# Altium schematic symbol library 2.8    -晟矽微MCU.SchLib: 19 symbols
Pins are listed as number, name and electrical type; pins without a type are passive.

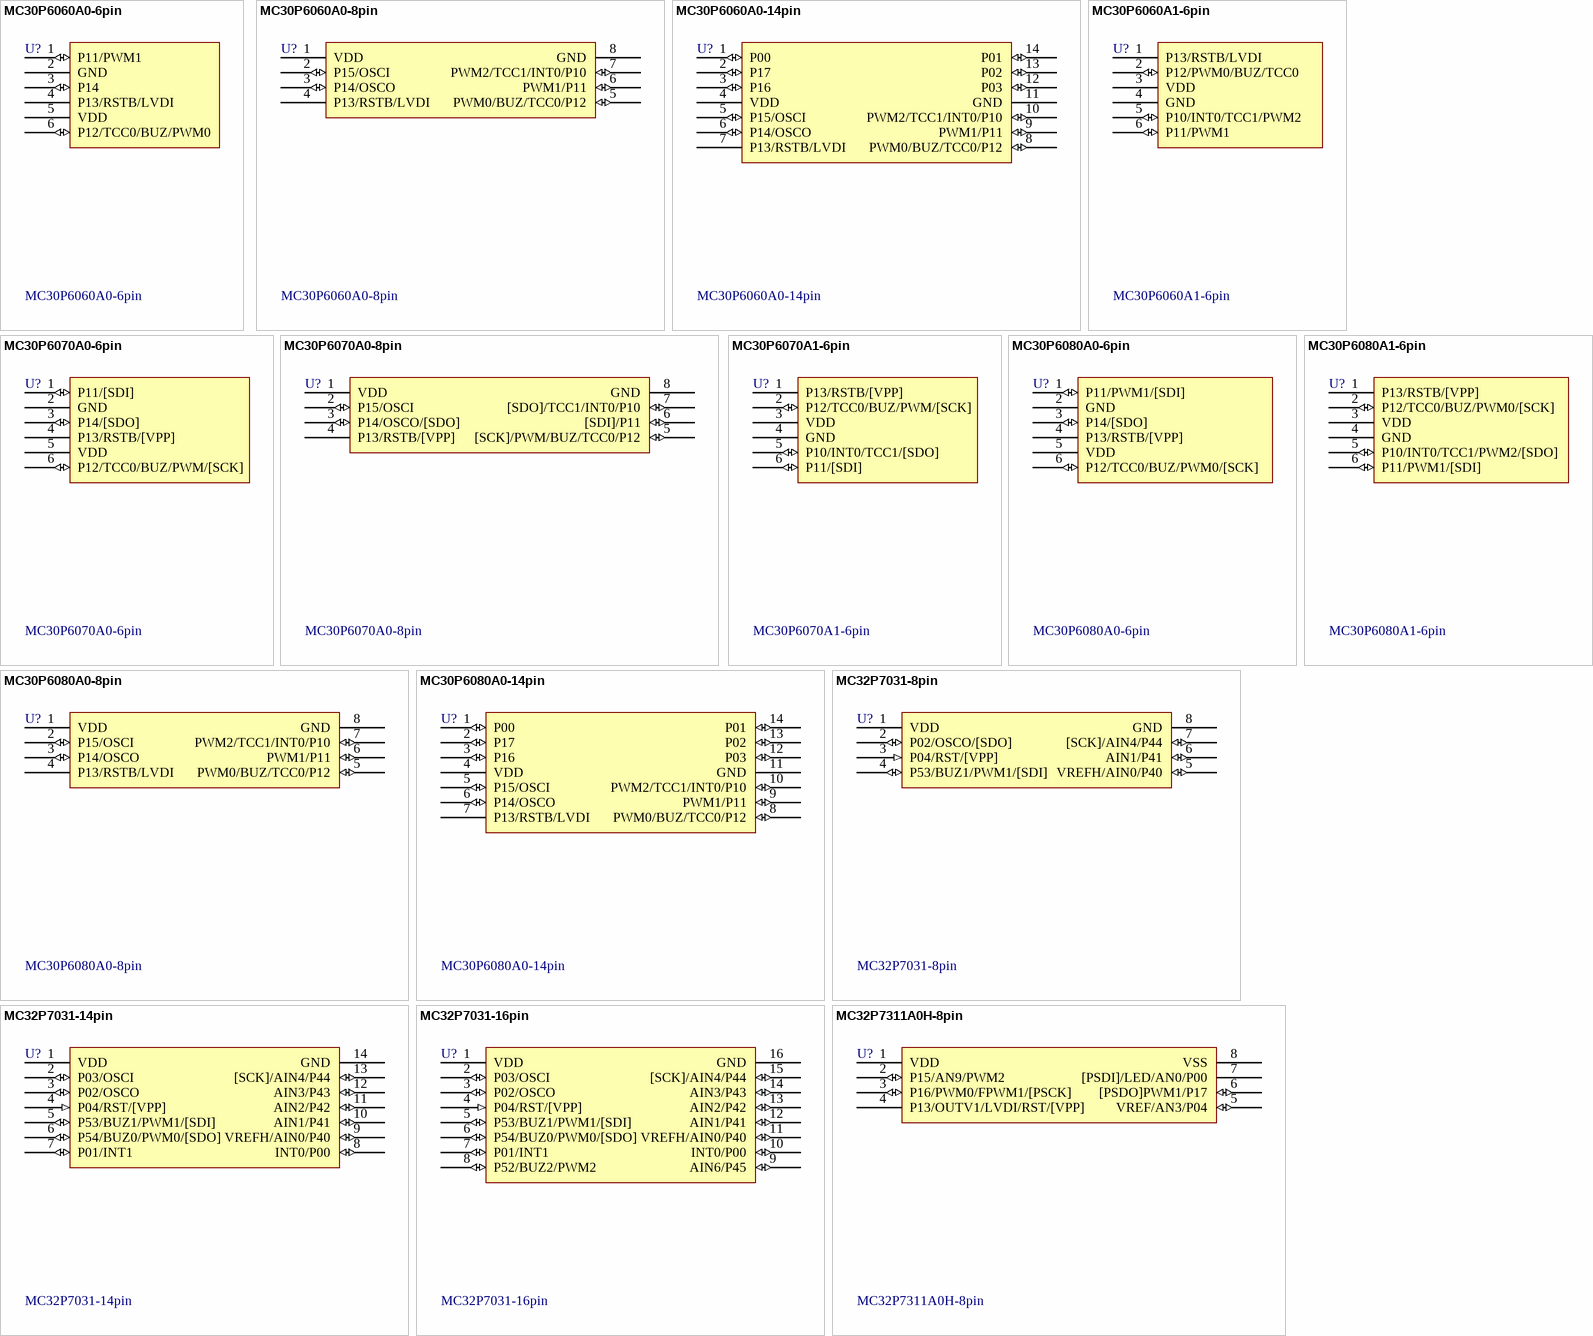
[diagram p0: symbols MC30P6060A0-6pin to MC32P7311A0H-8pin]

## MC30P6060A0-6pin
designator U?
OTP: 1K,     RAM: 48B,  IO: 4; BOM名称: 晟矽微MCU; 描述: OTP: 1K,     RAM: 48B,  IO: 4
footprint SOT23-6N (3x1.6x1.1mm(长宽高))
footprint SOT23-6L (3x1.6x1.1mm(长宽高))
footprint SOT23-6M (3x1.6x1.1mm(长宽高))
pins: 1 P11/PWM1 (io), 2 GND (power), 3 P14 (io), 4 P13/RSTB/LVDI (oc), 5 VDD (power), 6 P12/TCC0/BUZ/PWM0 (io)

## MC30P6060A0-8pin
designator U?
OTP: 1K,     RAM: 48B,  IO: 6; BOM名称: 晟矽微MCU; 描述: OTP: 1K,     RAM: 48B,  IO: 6
footprint SOP8_N (5*6*1.8mm（长宽高）)
footprint SOP8_L (5*6*1.8mm（长宽高）)
footprint SOP8_M (5*6*1.8mm（长宽高）)
footprint TSSOP8_L (3*4.2*1mm（长宽高）)
footprint TSSOP8_N (规格：3*6.4*1.1mm（长宽高）)
footprint TSSOP8_M (3*4.2*1mm（长宽高）)
pins: 1 VDD (power), 2 P15/OSCI (io), 3 P14/OSCO (io), 4 P13/RSTB/LVDI (oc), 5 PWM0/BUZ/TCC0/P12 (io), 6 PWM1/P11 (io), 7 PWM2/TCC1/INT0/P10 (io), 8 GND (power)

## MC30P6060A0-14pin
designator U?
OTP: 1K,     RAM: 48B,  IO: 12; BOM名称: 晟矽微MCU; 描述: OTP: 1K,     RAM: 48B,  IO: 12
footprint SOP14_N (8.7*6.2*1.8mm（长宽高）)
footprint SOP14_L (8.7*6.2*1.8mm（长宽高）)
footprint SOP14_M (8.7*6.2*1.8mm（长宽高）)
pins: 1 P00 (io), 2 P17 (io), 3 P16 (io), 4 VDD (power), 5 P15/OSCI (io), 6 P14/OSCO (io), 7 P13/RSTB/LVDI (oc), 8 PWM0/BUZ/TCC0/P12 (io), 9 PWM1/P11 (io), 10 PWM2/TCC1/INT0/P10 (io), 11 GND (power), 12 P03 (io), 13 P02 (io), 14 P01 (io)

## MC30P6060A1-6pin
designator U?
OTP: 1K,     RAM: 48B,  IO: 4; BOM名称: 晟矽微MCU; 描述: OTP: 1K,     RAM: 48B,  IO: 4
footprint SOT23-6L (3x1.6x1.1mm(长宽高))
footprint SOT23-6N (3x1.6x1.1mm(长宽高))
footprint SOT23-6M (3x1.6x1.1mm(长宽高))
pins: 1 P13/RSTB/LVDI (oc), 2 P12/PWM0/BUZ/TCC0 (io), 3 VDD (power), 4 GND (power), 5 P10/INT0/TCC1/PWM2 (io), 6 P11/PWM1 (io)

## MC30P6070A0-6pin
designator U?
OTP: 1K,     RAM: 48B,  IO: 4; BOM名称: 晟矽微MCU; 描述: OTP: 1K,     RAM: 48B,  IO: 4
footprint SOT23-6N (3x1.6x1.1mm(长宽高))
footprint SOT23-6L (3x1.6x1.1mm(长宽高))
footprint SOT23-6M (3x1.6x1.1mm(长宽高))
pins: 1 P11/[SDI] (io), 2 GND (power), 3 P14/[SDO] (io), 4 P13/RSTB/[VPP] (oc), 5 VDD (power), 6 P12/TCC0/BUZ/PWM/[SCK] (io)

## MC30P6070A0-8pin
designator U?
OTP: 1K,     RAM: 48B,  IO: 6; BOM名称: 晟矽微MCU; 描述: OTP: 1K,     RAM: 48B,  IO: 6
footprint SOP8_N (5*6*1.8mm（长宽高）)
footprint SOP8_L (5*6*1.8mm（长宽高）)
footprint SOP8_M (5*6*1.8mm（长宽高）)
footprint TSSOP8_L (3*4.2*1mm（长宽高）)
footprint TSSOP8_N (规格：3*6.4*1.1mm（长宽高）)
footprint TSSOP8_M (3*4.2*1mm（长宽高）)
pins: 1 VDD (power), 2 P15/OSCI (io), 3 P14/OSCO/[SDO] (io), 4 P13/RSTB/[VPP] (oc), 5 [SCK]/PWM/BUZ/TCC0/P12 (io), 6 [SDI]/P11 (io), 7 [SDO]/TCC1/INT0/P10 (io), 8 GND (power)

## MC30P6070A1-6pin
designator U?
OTP: 1K,     RAM: 48B,  IO: 4; BOM名称: 晟矽微MCU; 描述: OTP: 1K,     RAM: 48B,  IO: 4
footprint SOT23-6L (3x1.6x1.1mm(长宽高))
footprint SOT23-6N (3x1.6x1.1mm(长宽高))
footprint SOT23-6M (3x1.6x1.1mm(长宽高))
pins: 1 P13/RSTB/[VPP] (oc), 2 P12/TCC0/BUZ/PWM/[SCK] (io), 3 VDD (power), 4 GND (power), 5 P10/INT0/TCC1/[SDO] (io), 6 P11/[SDI] (io)

## MC30P6080A0-6pin
designator U?
OTP: 1K,     RAM: 48B,  IO: 4; BOM名称: 晟矽微MCU; 描述: OTP: 1K,     RAM: 48B,  IO: 4
footprint SOT23-6N (3x1.6x1.1mm(长宽高))
footprint SOT23-6L (3x1.6x1.1mm(长宽高))
footprint SOT23-6M (3x1.6x1.1mm(长宽高))
pins: 1 P11/PWM1/[SDI] (io), 2 GND (power), 3 P14/[SDO] (io), 4 P13/RSTB/[VPP] (oc), 5 VDD (power), 6 P12/TCC0/BUZ/PWM0/[SCK] (io)

## MC30P6080A0-8pin
designator U?
OTP: 1K,     RAM: 48B,  IO: 6; BOM名称: 晟矽微MCU; 描述: OTP: 1K,     RAM: 48B,  IO: 6
footprint SOP8_N (5*6*1.8mm（长宽高）)
footprint SOP8_L (5*6*1.8mm（长宽高）)
footprint SOP8_M (5*6*1.8mm（长宽高）)
footprint TSSOP8_L (3*4.2*1mm（长宽高）)
footprint TSSOP8_N (规格：3*6.4*1.1mm（长宽高）)
footprint TSSOP8_M (3*4.2*1mm（长宽高）)
pins: 1 VDD (power), 2 P15/OSCI (io), 3 P14/OSCO (io), 4 P13/RSTB/LVDI (oc), 5 PWM0/BUZ/TCC0/P12 (io), 6 PWM1/P11 (io), 7 PWM2/TCC1/INT0/P10 (io), 8 GND (power)

## MC30P6080A0-14pin
designator U?
OTP: 1K,     RAM: 48B,  IO: 12; BOM名称: 晟矽微MCU; 描述: OTP: 1K,     RAM: 48B,  IO: 12
footprint SOP14_N (8.7*6.2*1.8mm（长宽高）)
footprint SOP14_L (8.7*6.2*1.8mm（长宽高）)
footprint SOP14_M (8.7*6.2*1.8mm（长宽高）)
pins: 1 P00 (io), 2 P17 (io), 3 P16 (io), 4 VDD (power), 5 P15/OSCI (io), 6 P14/OSCO (io), 7 P13/RSTB/LVDI (oc), 8 PWM0/BUZ/TCC0/P12 (io), 9 PWM1/P11 (io), 10 PWM2/TCC1/INT0/P10 (io), 11 GND (power), 12 P03 (io), 13 P02 (io), 14 P01 (io)

## MC30P6080A1-6pin
designator U?
OTP: 1K,     RAM: 48B,  IO: 4; BOM名称: 晟矽微MCU; 描述: OTP: 1K,     RAM: 48B,  IO: 4
footprint SOT23-6L (3x1.6x1.1mm(长宽高))
footprint SOT23-6N (3x1.6x1.1mm(长宽高))
footprint SOT23-6M (3x1.6x1.1mm(长宽高))
pins: 1 P13/RSTB/[VPP] (oc), 2 P12/TCC0/BUZ/PWM0/[SCK] (io), 3 VDD (power), 4 GND (power), 5 P10/INT0/TCC1/PWM2/[SDO] (io), 6 P11/PWM1/[SDI] (io)

## MC32P7031-8pin
designator U?
OTP: 2K,     RAM: 128B,  IO: 14; BOM名称: 晟矽微MCU; 描述: OTP: 2K,     RAM: 128B,  IO: 14
footprint SOP8_N (5*6*1.8mm（长宽高）)
footprint SOP8_L (4*5*1.8mm（长宽高）)
footprint SOP8_M (5*6*1.8mm（长宽高）)
pins: 1 VDD (power), 2 P02/OSCO/[SDO] (io), 3 P04/RST/[VPP] (in), 4 P53/BUZ1/PWM1/[SDI] (io), 5 VREFH/AIN0/P40 (io), 6 AIN1/P41 (io), 7 [SCK]/AIN4/P44 (io), 8 GND (power)

## MC32P7031-14pin
designator U?
OTP: 2K,     RAM: 128B,  IO: 12; BOM名称: 晟矽微MCU; 描述: OTP: 2K,     RAM: 128B,  IO: 14
footprint SOP14_N (8.7*6.2*1.8mm（长宽高）)
footprint SOP14_L (8.7*6.2*1.8mm（长宽高）)
footprint SOP14_M (8.7*6.2*1.8mm（长宽高）)
pins: 1 VDD (power), 2 P03/OSCI (io), 3 P02/OSCO (io), 4 P04/RST/[VPP] (in), 5 P53/BUZ1/PWM1/[SDI] (io), 6 P54/BUZ0/PWM0/[SDO] (io), 7 P01/INT1 (io), 8 INT0/P00 (io), 9 VREFH/AIN0/P40 (io), 10 AIN1/P41 (io), 11 AIN2/P42 (io), 12 AIN3/P43 (io), 13 [SCK]/AIN4/P44 (io), 14 GND (power)

## MC32P7031-16pin
designator U?
OTP: 2K,     RAM: 128B,  IO: 14; BOM名称: 晟矽微MCU; 描述: OTP: 2K,     RAM: 128B,  IO: 14
footprint SOP16_N (10.3*6.2*1.8mm（长宽高）)
footprint SOP16_L (10.3*6.2*1.8mm（长宽高）)
footprint SOP16_M (10.3*6.2*1.8mm（长宽高）)
pins: 1 VDD (power), 2 P03/OSCI (io), 3 P02/OSCO (io), 4 P04/RST/[VPP] (in), 5 P53/BUZ1/PWM1/[SDI] (io), 6 P54/BUZ0/PWM0/[SDO] (io), 7 P01/INT1 (io), 8 P52/BUZ2/PWM2 (io), 9 AIN6/P45 (io), 10 INT0/P00 (io), 11 VREFH/AIN0/P40 (io), 12 AIN1/P41 (io), 13 AIN2/P42 (io), 14 AIN3/P43 (io), 15 [SCK]/AIN4/P44 (io), 16 GND (power)

## MC32P7311A0H-8pin
designator U?
OTP: 2K,     RAM: 256B,  IO: 6; BOM名称: 晟矽微MCU; 描述: OTP: 1K,     RAM: 48B,  IO: 6
footprint SOP8_N (5*6*1.8mm（长宽高）)
footprint SOP8_L (5*6*1.8mm（长宽高）)
footprint SOP8_M (5*6*1.8mm（长宽高）)
pins: 1 VDD (power), 2 P15/AN9/PWM2 (io), 3 P16/PWM0/FPWM1/[PSCK] (io), 4 P13/OUTV1/LVDI/RST/[VPP], 5 VREF/AN3/P04 (io), 6 [PSDO]PWM1/P17 (io), 7 [PSDI]/LED/AN0/P00, 8 VSS (power)

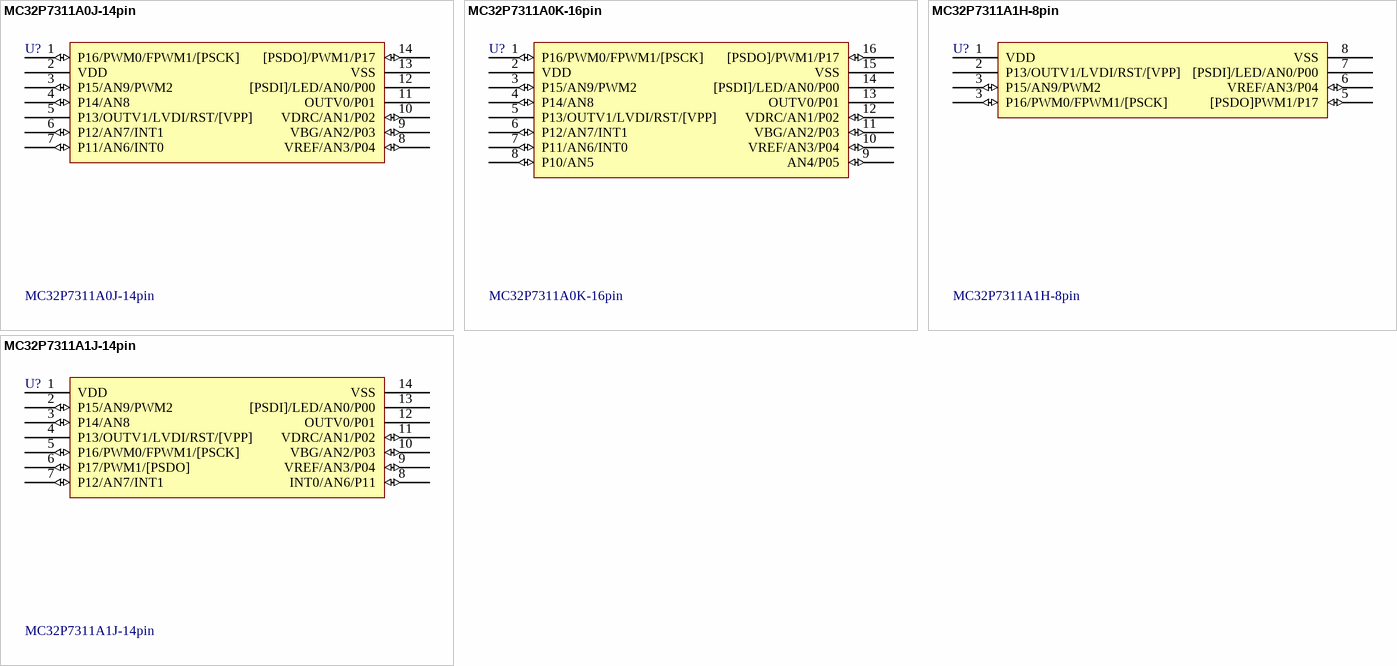
[diagram p1: symbols MC32P7311A0J-14pin to MC32P7311A1J-14pin]

## MC32P7311A0J-14pin
designator U?
OTP: 2K,     RAM: 256B,  IO: 12; BOM名称: 晟矽微MCU; 描述: OTP: 2K,     RAM: 256B,  IO: 12
footprint SOP14_N (8.7*6.2*1.8mm（长宽高）)
footprint SOP14_L (8.7*6.2*1.8mm（长宽高）)
footprint SOP14_M (8.7*6.2*1.8mm（长宽高）)
pins: 1 P16/PWM0/FPWM1/[PSCK] (io), 2 VDD (power), 3 P15/AN9/PWM2 (io), 4 P14/AN8 (io), 5 P13/OUTV1/LVDI/RST/[VPP], 6 P12/AN7/INT1 (io), 7 P11/AN6/INT0 (io), 8 VREF/AN3/P04 (io), 9 VBG/AN2/P03 (io), 10 VDRC/AN1/P02 (io), 11 OUTV0/P01, 12 [PSDI]/LED/AN0/P00, 13 VSS (power), 14 [PSDO]/PWM1/P17 (io)

## MC32P7311A0K-16pin
designator U?
OTP: 2K,     RAM: 256B,  IO: 14; BOM名称: 晟矽微MCU; 描述: OTP: 2K,     RAM: 256B,  IO: 14
footprint SOP16_N (10.3*6.2*1.8mm（长宽高）)
footprint SOP16_L (10.3*6.2*1.8mm（长宽高）)
footprint SOP16_M (10.3*6.2*1.8mm（长宽高）)
pins: 1 P16/PWM0/FPWM1/[PSCK] (io), 2 VDD (power), 3 P15/AN9/PWM2 (io), 4 P14/AN8 (io), 5 P13/OUTV1/LVDI/RST/[VPP], 6 P12/AN7/INT1 (io), 7 P11/AN6/INT0 (io), 8 P10/AN5 (io), 9 AN4/P05 (io), 10 VREF/AN3/P04 (io), 11 VBG/AN2/P03 (io), 12 VDRC/AN1/P02 (io), 13 OUTV0/P01, 14 [PSDI]/LED/AN0/P00, 15 VSS (power), 16 [PSDO]/PWM1/P17 (io)

## MC32P7311A1H-8pin
designator U?
OTP: 2K,     RAM: 256B,  IO: 6; BOM名称: 晟矽微MCU; 描述: OTP: 1K,     RAM: 48B,  IO: 6
footprint SOP8_N (5*6*1.8mm（长宽高）)
footprint SOP8_L (5*6*1.8mm（长宽高）)
footprint SOP8_M (5*6*1.8mm（长宽高）)
pins: 1 VDD (power), 2 P13/OUTV1/LVDI/RST/[VPP], 3 P15/AN9/PWM2 (io), 3 P16/PWM0/FPWM1/[PSCK] (io), 5 [PSDO]PWM1/P17 (io), 6 VREF/AN3/P04 (io), 7 [PSDI]/LED/AN0/P00, 8 VSS (power)

## MC32P7311A1J-14pin
designator U?
OTP: 2K,     RAM: 256B,  IO: 12; BOM名称: 晟矽微MCU; 描述: OTP: 2K,     RAM: 256B,  IO: 12
footprint SOP14_N (8.7*6.2*1.8mm（长宽高）)
footprint SOP14_L (8.7*6.2*1.8mm（长宽高）)
footprint SOP14_M (8.7*6.2*1.8mm（长宽高）)
pins: 1 VDD (power), 2 P15/AN9/PWM2 (io), 3 P14/AN8 (io), 4 P13/OUTV1/LVDI/RST/[VPP], 5 P16/PWM0/FPWM1/[PSCK] (io), 6 P17/PWM1/[PSDO] (io), 7 P12/AN7/INT1 (io), 8 INT0/AN6/P11 (io), 9 VREF/AN3/P04 (io), 10 VBG/AN2/P03 (io), 11 VDRC/AN1/P02 (io), 12 OUTV0/P01, 13 [PSDI]/LED/AN0/P00, 14 VSS (power)